# Altium integrated library Linear Technology Power Management Current Sources.IntLib: 79 symbols (part 6 of 7)
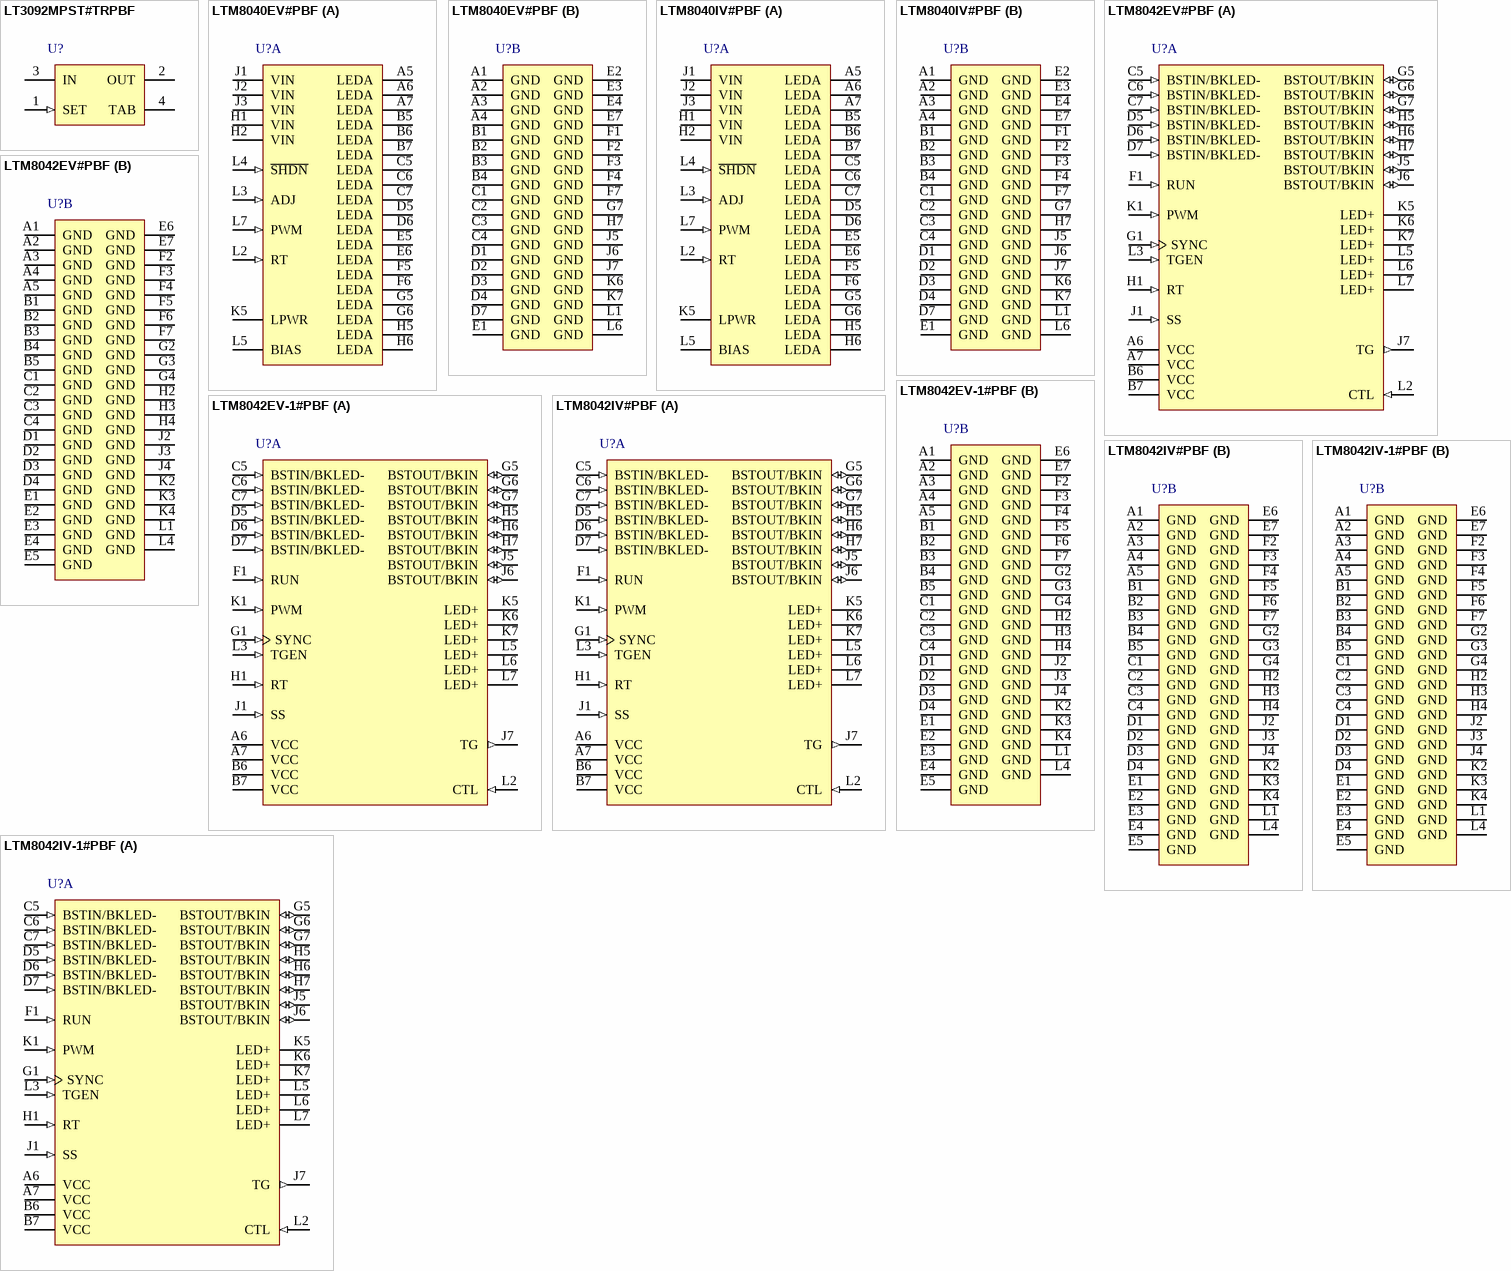
[diagram p7: symbols LT3092MPST#TRPBF to LTM8042IV-1#PBF]

## LTM8042EV-1#PBF
designator U?
uModule Multi-Topology 350 mA CC/CV LED Driver or Current Source, 4.2 mA Isupply, 77-pin LGA, -40 to 125 degC, Pb-Free, Tray; Manufacturer: Linear Technology; PartNumber: LTM8042EV-1#PBF; Extended Temp: E, I; Isupply(mA): 4.2; Output Current Range: 35 mA to 350 mA; Vin Max(V): 30; Vin Min(V): 3; DatasheetVersion: Rev. A; PackageVersion: Rev. Ø, 01/2011; PackageReference: LGA-77; PackageDescription: 77-Lead LGA, Body 15 x 9 mm, Pitch 1.27 mm; Supplier 1: Digi-Key; Supplier Part Number 1: LTM8042EV-1#PBF-ND; Supplier 2: Farnell; Supplier Part Number 2: 1847476; Supplier 3: Newark; Supplier Part Number 3: 99R2732; Packing: Tray; RoHS: TRUE; Mounting Technology: Surface Mount; Code_JEDEC: MO-222; ComponentLink1Description: Manufacturer URL; ComponentLink1URL: http://www.linear.com/; ComponentLink2Description: Datasheet; ComponentLink2URL: http://cds.linear.com/docs/en/datasheet/80421fa.pdf; ComponentLink3Description: Package Specification; ComponentLink3URL: http://cds.linear.com/docs/en/datasheet/80421fa.pdf
footprint LT-LGA-77-05-08-1859_V (LGA, 77-Leads, Body 15x9mm, Pitch 1.27mm)
part A pins: A6 VCC (power) "Internal Housekeeping Power for the LTM8042/LTM8042-1. Connect to an external power source between 3V and 30V. The LTM8042/LTM8042-1 can withstand transients of 40V.", A7 VCC (power) "Internal Housekeeping Power for the LTM8042/LTM8042-1. Connect to an external power source between 3V and 30V. The LTM8042/LTM8042-1 can withstand transients of 40V.", B6 VCC (power) "Internal Housekeeping Power for the LTM8042/LTM8042-1. Connect to an external power source between 3V and 30V. The LTM8042/LTM8042-1 can withstand transients of 40V.", B7 VCC (power) "Internal Housekeeping Power for the LTM8042/LTM8042-1. Connect to an external power source between 3V and 30V. The LTM8042/LTM8042-1 can withstand transients of 40V.", C5 BSTIN/BKLED- (in) "Power Input for Boost Operation, as Well as the Cathode Connection for the LED String in Buck Mode. If the LTM8042/LTM8042-1 is used in boost mode, these pins must be locally decoupled.", C6 BSTIN/BKLED- (in) "Power Input for Boost Operation, as Well as the Cathode Connection for the LED String in Buck Mode. If the LTM8042/LTM8042-1 is used in boost mode, these pins must be locally decoupled.", C7 BSTIN/BKLED- (in) "Power Input for Boost Operation, as Well as the Cathode Connection for the LED String in Buck Mode. If the LTM8042/LTM8042-1 is used in boost mode, these pins must be locally decoupled.", D5 BSTIN/BKLED- (in) "Power Input for Boost Operation, as Well as the Cathode Connection for the LED String in Buck Mode. If the LTM8042/LTM8042-1 is used in boost mode, these pins must be locally decoupled.", D6 BSTIN/BKLED- (in) "Power Input for Boost Operation, as Well as the Cathode Connection for the LED String in Buck Mode. If the LTM8042/LTM8042-1 is used in boost mode, these pins must be locally decoupled.", D7 BSTIN/BKLED- (in) "Power Input for Boost Operation, as Well as the Cathode Connection for the LED String in Buck Mode. If the LTM8042/LTM8042-1 is used in boost mode, these pins must be locally decoupled.", F1 RUN (in) "Module Enable. Tie to 1.5V or higher to enable the LTM8042/LTM8042-1 or 0.4V or less to disable device.", G1 SYNC (in) "Frequency Synchronization Pin. Tie an external clock signal here. The RT resistor should be chosen to program a switching frequency that is 20% slower than SYNC pulse frequency. Tie the SYNC pin to GND if this feature is not (See Datasheet)", G5 BSTOUT/BKIN (io) "Output of the Boost Converter, as Well as the Input for Buck Mode. If the LTM8042/LTM8042-1 is used in buck mode, these pins must be locally decoupled.", G6 BSTOUT/BKIN (io) "Output of the Boost Converter, as Well as the Input for Buck Mode. If the LTM8042/LTM8042-1 is used in buck mode, these pins must be locally decoupled.", G7 BSTOUT/BKIN (io) "Output of the Boost Converter, as Well as the Input for Buck Mode. If the LTM8042/LTM8042-1 is used in buck mode, these pins must be locally decoupled.", H1 RT (in) "Timing Resistor Pin. Used to program the switching frequency of the LTM8042/LTM8042-1 by connecting a resistor from this pin to GND. The Applications Information section of the data sheet includes a table to determine the (See Datasheet)", H5 BSTOUT/BKIN (io) "Output of the Boost Converter, as Well as the Input for Buck Mode. If the LTM8042/LTM8042-1 is used in buck mode, these pins must be locally decoupled.", H6 BSTOUT/BKIN (io) "Output of the Boost Converter, as Well as the Input for Buck Mode. If the LTM8042/LTM8042-1 is used in buck mode, these pins must be locally decoupled.", H7 BSTOUT/BKIN (io) "Output of the Boost Converter, as Well as the Input for Buck Mode. If the LTM8042/LTM8042-1 is used in buck mode, these pins must be locally decoupled.", J1 SS (in) "Soft-Start Pin. Place a soft-start capacitor here. Leave the pin open if not used.", J5 BSTOUT/BKIN (io) "Output of the Boost Converter, as Well as the Input for Buck Mode. If the LTM8042/LTM8042-1 is used in buck mode, these pins must be locally decoupled.", J6 BSTOUT/BKIN (io) "Output of the Boost Converter, as Well as the Input for Buck Mode. If the LTM8042/LTM8042-1 is used in buck mode, these pins must be locally decoupled.", J7 TG (out) "Top Gate Driver Output. In response to an active high PWM signal, this pin will drive the gate of an external series P-channel MOSFET device low. An internal 7V clamp protects the PFET gate. This pin can also be used to (See Datasheet)", K1 PWM (in) "Pulse Width Modulation Input Pin. A low signal turns off the LED string, disables the main switch and pulls the TG pin high. Drive above 1.55V to deliver current to the output. Tie the PWM pin to the RUN pin if not used. (See Datasheet)", K5 LED+ (power) "Connect this to the anode of the LED string. This can also be connected to the PWM dimming MOSFET if used.", K6 LED+ (power) "Connect this to the anode of the LED string. This can also be connected to the PWM dimming MOSFET if used.", K7 LED+ (power) "Connect this to the anode of the LED string. This can also be connected to the PWM dimming MOSFET if used.", L2 CTL (in) "LED Current Adjustment Pin. Apply a voltage between approximately 1V and 0V to modulate the LED+ output current, or tie a resistor to GND to modulate the LED+ current. CTL is internally tied to a 2V precision reference via a (See Datasheet)", L3 TGEN (in) "Top Gate (TG) Enable Input Pin. Tie to 1.5V or higher to enable the P-channel MOSFET driver function. Tie the TGEN pin to ground if the TG function is not used. There is an internal 40k resistor from TGEN to GND.", L5 LED+ (power) "Connect this to the anode of the LED string. This can also be connected to the PWM dimming MOSFET if used.", L6 LED+ (power) "Connect this to the anode of the LED string. This can also be connected to the PWM dimming MOSFET if used.", L7 LED+ (power) "Connect this to the anode of the LED string. This can also be connected to the PWM dimming MOSFET if used."
part B pins: A1 GND (power) "Signal and Power Return. Tie these pads to a local ground plane below the LTM8042/LTM8042-1 and the circuit components. In most applications, the bulk of the heat flow out of the LTM8042/LTM8042-1 is through these pads, so (See Datasheet)", A2 GND (power) "Signal and Power Return. Tie these pads to a local ground plane below the LTM8042/LTM8042-1 and the circuit components. In most applications, the bulk of the heat flow out of the LTM8042/LTM8042-1 is through these pads, so (See Datasheet)", A3 GND (power) "Signal and Power Return. Tie these pads to a local ground plane below the LTM8042/LTM8042-1 and the circuit components. In most applications, the bulk of the heat flow out of the LTM8042/LTM8042-1 is through these pads, so (See Datasheet)", A4 GND (power) "Signal and Power Return. Tie these pads to a local ground plane below the LTM8042/LTM8042-1 and the circuit components. In most applications, the bulk of the heat flow out of the LTM8042/LTM8042-1 is through these pads, so (See Datasheet)", A5 GND (power) "Signal and Power Return. Tie these pads to a local ground plane below the LTM8042/LTM8042-1 and the circuit components. In most applications, the bulk of the heat flow out of the LTM8042/LTM8042-1 is through these pads, so (See Datasheet)", B1 GND (power) "Signal and Power Return. Tie these pads to a local ground plane below the LTM8042/LTM8042-1 and the circuit components. In most applications, the bulk of the heat flow out of the LTM8042/LTM8042-1 is through these pads, so (See Datasheet)", B2 GND (power) "Signal and Power Return. Tie these pads to a local ground plane below the LTM8042/LTM8042-1 and the circuit components. In most applications, the bulk of the heat flow out of the LTM8042/LTM8042-1 is through these pads, so (See Datasheet)", B3 GND (power) "Signal and Power Return. Tie these pads to a local ground plane below the LTM8042/LTM8042-1 and the circuit components. In most applications, the bulk of the heat flow out of the LTM8042/LTM8042-1 is through these pads, so (See Datasheet)", B4 GND (power) "Signal and Power Return. Tie these pads to a local ground plane below the LTM8042/LTM8042-1 and the circuit components. In most applications, the bulk of the heat flow out of the LTM8042/LTM8042-1 is through these pads, so (See Datasheet)", B5 GND (power) "Signal and Power Return. Tie these pads to a local ground plane below the LTM8042/LTM8042-1 and the circuit components. In most applications, the bulk of the heat flow out of the LTM8042/LTM8042-1 is through these pads, so (See Datasheet)", C1 GND (power) "Signal and Power Return. Tie these pads to a local ground plane below the LTM8042/LTM8042-1 and the circuit components. In most applications, the bulk of the heat flow out of the LTM8042/LTM8042-1 is through these pads, so (See Datasheet)", C2 GND (power) "Signal and Power Return. Tie these pads to a local ground plane below the LTM8042/LTM8042-1 and the circuit components. In most applications, the bulk of the heat flow out of the LTM8042/LTM8042-1 is through these pads, so (See Datasheet)", C3 GND (power) "Signal and Power Return. Tie these pads to a local ground plane below the LTM8042/LTM8042-1 and the circuit components. In most applications, the bulk of the heat flow out of the LTM8042/LTM8042-1 is through these pads, so (See Datasheet)", C4 GND (power) "Signal and Power Return. Tie these pads to a local ground plane below the LTM8042/LTM8042-1 and the circuit components. In most applications, the bulk of the heat flow out of the LTM8042/LTM8042-1 is through these pads, so (See Datasheet)", D1 GND (power) "Signal and Power Return. Tie these pads to a local ground plane below the LTM8042/LTM8042-1 and the circuit components. In most applications, the bulk of the heat flow out of the LTM8042/LTM8042-1 is through these pads, so (See Datasheet)", D2 GND (power) "Signal and Power Return. Tie these pads to a local ground plane below the LTM8042/LTM8042-1 and the circuit components. In most applications, the bulk of the heat flow out of the LTM8042/LTM8042-1 is through these pads, so (See Datasheet)", D3 GND (power) "Signal and Power Return. Tie these pads to a local ground plane below the LTM8042/LTM8042-1 and the circuit components. In most applications, the bulk of the heat flow out of the LTM8042/LTM8042-1 is through these pads, so (See Datasheet)", D4 GND (power) "Signal and Power Return. Tie these pads to a local ground plane below the LTM8042/LTM8042-1 and the circuit components. In most applications, the bulk of the heat flow out of the LTM8042/LTM8042-1 is through these pads, so (See Datasheet)", E1 GND (power) "Signal and Power Return. Tie these pads to a local ground plane below the LTM8042/LTM8042-1 and the circuit components. In most applications, the bulk of the heat flow out of the LTM8042/LTM8042-1 is through these pads, so (See Datasheet)", E2 GND (power) "Signal and Power Return. Tie these pads to a local ground plane below the LTM8042/LTM8042-1 and the circuit components. In most applications, the bulk of the heat flow out of the LTM8042/LTM8042-1 is through these pads, so (See Datasheet)", E3 GND (power) "Signal and Power Return. Tie these pads to a local ground plane below the LTM8042/LTM8042-1 and the circuit components. In most applications, the bulk of the heat flow out of the LTM8042/LTM8042-1 is through these pads, so (See Datasheet)", E4 GND (power) "Signal and Power Return. Tie these pads to a local ground plane below the LTM8042/LTM8042-1 and the circuit components. In most applications, the bulk of the heat flow out of the LTM8042/LTM8042-1 is through these pads, so (See Datasheet)", E5 GND (power) "Signal and Power Return. Tie these pads to a local ground plane below the LTM8042/LTM8042-1 and the circuit components. In most applications, the bulk of the heat flow out of the LTM8042/LTM8042-1 is through these pads, so (See Datasheet)", E6 GND (power) "Signal and Power Return. Tie these pads to a local ground plane below the LTM8042/LTM8042-1 and the circuit components. In most applications, the bulk of the heat flow out of the LTM8042/LTM8042-1 is through these pads, so (See Datasheet)", E7 GND (power) "Signal and Power Return. Tie these pads to a local ground plane below the LTM8042/LTM8042-1 and the circuit components. In most applications, the bulk of the heat flow out of the LTM8042/LTM8042-1 is through these pads, so (See Datasheet)", F2 GND (power) "Signal and Power Return. Tie these pads to a local ground plane below the LTM8042/LTM8042-1 and the circuit components. In most applications, the bulk of the heat flow out of the LTM8042/LTM8042-1 is through these pads, so (See Datasheet)", F3 GND (power) "Signal and Power Return. Tie these pads to a local ground plane below the LTM8042/LTM8042-1 and the circuit components. In most applications, the bulk of the heat flow out of the LTM8042/LTM8042-1 is through these pads, so (See Datasheet)", F4 GND (power) "Signal and Power Return. Tie these pads to a local ground plane below the LTM8042/LTM8042-1 and the circuit components. In most applications, the bulk of the heat flow out of the LTM8042/LTM8042-1 is through these pads, so (See Datasheet)", F5 GND (power) "Signal and Power Return. Tie these pads to a local ground plane below the LTM8042/LTM8042-1 and the circuit components. In most applications, the bulk of the heat flow out of the LTM8042/LTM8042-1 is through these pads, so (See Datasheet)", F6 GND (power) "Signal and Power Return. Tie these pads to a local ground plane below the LTM8042/LTM8042-1 and the circuit components. In most applications, the bulk of the heat flow out of the LTM8042/LTM8042-1 is through these pads, so (See Datasheet)", F7 GND (power) "Signal and Power Return. Tie these pads to a local ground plane below the LTM8042/LTM8042-1 and the circuit components. In most applications, the bulk of the heat flow out of the LTM8042/LTM8042-1 is through these pads, so (See Datasheet)", G2 GND (power) "Signal and Power Return. Tie these pads to a local ground plane below the LTM8042/LTM8042-1 and the circuit components. In most applications, the bulk of the heat flow out of the LTM8042/LTM8042-1 is through these pads, so (See Datasheet)", G3 GND (power) "Signal and Power Return. Tie these pads to a local ground plane below the LTM8042/LTM8042-1 and the circuit components. In most applications, the bulk of the heat flow out of the LTM8042/LTM8042-1 is through these pads, so (See Datasheet)", G4 GND (power) "Signal and Power Return. Tie these pads to a local ground plane below the LTM8042/LTM8042-1 and the circuit components. In most applications, the bulk of the heat flow out of the LTM8042/LTM8042-1 is through these pads, so (See Datasheet)", H2 GND (power) "Signal and Power Return. Tie these pads to a local ground plane below the LTM8042/LTM8042-1 and the circuit components. In most applications, the bulk of the heat flow out of the LTM8042/LTM8042-1 is through these pads, so (See Datasheet)", H3 GND (power) "Signal and Power Return. Tie these pads to a local ground plane below the LTM8042/LTM8042-1 and the circuit components. In most applications, the bulk of the heat flow out of the LTM8042/LTM8042-1 is through these pads, so (See Datasheet)", H4 GND (power) "Signal and Power Return. Tie these pads to a local ground plane below the LTM8042/LTM8042-1 and the circuit components. In most applications, the bulk of the heat flow out of the LTM8042/LTM8042-1 is through these pads, so (See Datasheet)", J2 GND (power) "Signal and Power Return. Tie these pads to a local ground plane below the LTM8042/LTM8042-1 and the circuit components. In most applications, the bulk of the heat flow out of the LTM8042/LTM8042-1 is through these pads, so (See Datasheet)", J3 GND (power) "Signal and Power Return. Tie these pads to a local ground plane below the LTM8042/LTM8042-1 and the circuit components. In most applications, the bulk of the heat flow out of the LTM8042/LTM8042-1 is through these pads, so (See Datasheet)", J4 GND (power) "Signal and Power Return. Tie these pads to a local ground plane below the LTM8042/LTM8042-1 and the circuit components. In most applications, the bulk of the heat flow out of the LTM8042/LTM8042-1 is through these pads, so (See Datasheet)", K2 GND (power) "Signal and Power Return. Tie these pads to a local ground plane below the LTM8042/LTM8042-1 and the circuit components. In most applications, the bulk of the heat flow out of the LTM8042/LTM8042-1 is through these pads, so (See Datasheet)", K3 GND (power) "Signal and Power Return. Tie these pads to a local ground plane below the LTM8042/LTM8042-1 and the circuit components. In most applications, the bulk of the heat flow out of the LTM8042/LTM8042-1 is through these pads, so (See Datasheet)", K4 GND (power) "Signal and Power Return. Tie these pads to a local ground plane below the LTM8042/LTM8042-1 and the circuit components. In most applications, the bulk of the heat flow out of the LTM8042/LTM8042-1 is through these pads, so (See Datasheet)", L1 GND (power) "Signal and Power Return. Tie these pads to a local ground plane below the LTM8042/LTM8042-1 and the circuit components. In most applications, the bulk of the heat flow out of the LTM8042/LTM8042-1 is through these pads, so (See Datasheet)", L4 GND (power) "Signal and Power Return. Tie these pads to a local ground plane below the LTM8042/LTM8042-1 and the circuit components. In most applications, the bulk of the heat flow out of the LTM8042/LTM8042-1 is through these pads, so (See Datasheet)"

## LTM8042IV#PBF
designator U?
uModule Multi-Topology 1 A CC/CV LED Driver or Current Source, 4.2 mA Isupply, 77-pin LGA, -40 to 125 degC, Pb-Free, Tray; Manufacturer: Linear Technology; PartNumber: LTM8042IV#PBF; Extended Temp: E, I; Isupply(mA): 4.2; Output Current Range: 35 mA to 1000 mA; Vin Max(V): 30; Vin Min(V): 3; DatasheetVersion: Rev. A; PackageVersion: Rev. Ø, 01/2011; PackageReference: LGA-77; PackageDescription: 77-Lead LGA, Body 15 x 9 mm, Pitch 1.27 mm; Supplier 1: Digi-Key; Supplier Part Number 1: LTM8042IV#PBF-ND; Supplier 2: Farnell; Supplier Part Number 2: 1847477; Supplier 3: Newark; Supplier Part Number 3: 99R2735; Packing: Tray; RoHS: TRUE; Mounting Technology: Surface Mount; Code_JEDEC: MO-222; ComponentLink1Description: Manufacturer URL; ComponentLink1URL: http://www.linear.com/; ComponentLink2Description: Datasheet; ComponentLink2URL: http://cds.linear.com/docs/en/datasheet/80421fa.pdf; ComponentLink3Description: Package Specification; ComponentLink3URL: http://cds.linear.com/docs/en/datasheet/80421fa.pdf
footprint LT-LGA-77-05-08-1859_V (LGA, 77-Leads, Body 15x9mm, Pitch 1.27mm)
part A pins: A6 VCC (power) "Internal Housekeeping Power for the LTM8042/LTM8042-1. Connect to an external power source between 3V and 30V. The LTM8042/LTM8042-1 can withstand transients of 40V.", A7 VCC (power) "Internal Housekeeping Power for the LTM8042/LTM8042-1. Connect to an external power source between 3V and 30V. The LTM8042/LTM8042-1 can withstand transients of 40V.", B6 VCC (power) "Internal Housekeeping Power for the LTM8042/LTM8042-1. Connect to an external power source between 3V and 30V. The LTM8042/LTM8042-1 can withstand transients of 40V.", B7 VCC (power) "Internal Housekeeping Power for the LTM8042/LTM8042-1. Connect to an external power source between 3V and 30V. The LTM8042/LTM8042-1 can withstand transients of 40V.", C5 BSTIN/BKLED- (in) "Power Input for Boost Operation, as Well as the Cathode Connection for the LED String in Buck Mode. If the LTM8042/LTM8042-1 is used in boost mode, these pins must be locally decoupled.", C6 BSTIN/BKLED- (in) "Power Input for Boost Operation, as Well as the Cathode Connection for the LED String in Buck Mode. If the LTM8042/LTM8042-1 is used in boost mode, these pins must be locally decoupled.", C7 BSTIN/BKLED- (in) "Power Input for Boost Operation, as Well as the Cathode Connection for the LED String in Buck Mode. If the LTM8042/LTM8042-1 is used in boost mode, these pins must be locally decoupled.", D5 BSTIN/BKLED- (in) "Power Input for Boost Operation, as Well as the Cathode Connection for the LED String in Buck Mode. If the LTM8042/LTM8042-1 is used in boost mode, these pins must be locally decoupled.", D6 BSTIN/BKLED- (in) "Power Input for Boost Operation, as Well as the Cathode Connection for the LED String in Buck Mode. If the LTM8042/LTM8042-1 is used in boost mode, these pins must be locally decoupled.", D7 BSTIN/BKLED- (in) "Power Input for Boost Operation, as Well as the Cathode Connection for the LED String in Buck Mode. If the LTM8042/LTM8042-1 is used in boost mode, these pins must be locally decoupled.", F1 RUN (in) "Module Enable. Tie to 1.5V or higher to enable the LTM8042/LTM8042-1 or 0.4V or less to disable device.", G1 SYNC (in) "Frequency Synchronization Pin. Tie an external clock signal here. The RT resistor should be chosen to program a switching frequency that is 20% slower than SYNC pulse frequency. Tie the SYNC pin to GND if this feature is not (See Datasheet)", G5 BSTOUT/BKIN (io) "Output of the Boost Converter, as Well as the Input for Buck Mode. If the LTM8042/LTM8042-1 is used in buck mode, these pins must be locally decoupled.", G6 BSTOUT/BKIN (io) "Output of the Boost Converter, as Well as the Input for Buck Mode. If the LTM8042/LTM8042-1 is used in buck mode, these pins must be locally decoupled.", G7 BSTOUT/BKIN (io) "Output of the Boost Converter, as Well as the Input for Buck Mode. If the LTM8042/LTM8042-1 is used in buck mode, these pins must be locally decoupled.", H1 RT (in) "Timing Resistor Pin. Used to program the switching frequency of the LTM8042/LTM8042-1 by connecting a resistor from this pin to GND. The Applications Information section of the data sheet includes a table to determine the (See Datasheet)", H5 BSTOUT/BKIN (io) "Output of the Boost Converter, as Well as the Input for Buck Mode. If the LTM8042/LTM8042-1 is used in buck mode, these pins must be locally decoupled.", H6 BSTOUT/BKIN (io) "Output of the Boost Converter, as Well as the Input for Buck Mode. If the LTM8042/LTM8042-1 is used in buck mode, these pins must be locally decoupled.", H7 BSTOUT/BKIN (io) "Output of the Boost Converter, as Well as the Input for Buck Mode. If the LTM8042/LTM8042-1 is used in buck mode, these pins must be locally decoupled.", J1 SS (in) "Soft-Start Pin. Place a soft-start capacitor here. Leave the pin open if not used.", J5 BSTOUT/BKIN (io) "Output of the Boost Converter, as Well as the Input for Buck Mode. If the LTM8042/LTM8042-1 is used in buck mode, these pins must be locally decoupled.", J6 BSTOUT/BKIN (io) "Output of the Boost Converter, as Well as the Input for Buck Mode. If the LTM8042/LTM8042-1 is used in buck mode, these pins must be locally decoupled.", J7 TG (out) "Top Gate Driver Output. In response to an active high PWM signal, this pin will drive the gate of an external series P-channel MOSFET device low. An internal 7V clamp protects the PFET gate. This pin can also be used to (See Datasheet)", K1 PWM (in) "Pulse Width Modulation Input Pin. A low signal turns off the LED string, disables the main switch and pulls the TG pin high. Drive above 1.55V to deliver current to the output. Tie the PWM pin to the RUN pin if not used. (See Datasheet)", K5 LED+ (power) "Connect this to the anode of the LED string. This can also be connected to the PWM dimming MOSFET if used.", K6 LED+ (power) "Connect this to the anode of the LED string. This can also be connected to the PWM dimming MOSFET if used.", K7 LED+ (power) "Connect this to the anode of the LED string. This can also be connected to the PWM dimming MOSFET if used.", L2 CTL (in) "LED Current Adjustment Pin. Apply a voltage between approximately 1V and 0V to modulate the LED+ output current, or tie a resistor to GND to modulate the LED+ current. CTL is internally tied to a 2V precision reference via a (See Datasheet)", L3 TGEN (in) "Top Gate (TG) Enable Input Pin. Tie to 1.5V or higher to enable the P-channel MOSFET driver function. Tie the TGEN pin to ground if the TG function is not used. There is an internal 40k resistor from TGEN to GND.", L5 LED+ (power) "Connect this to the anode of the LED string. This can also be connected to the PWM dimming MOSFET if used.", L6 LED+ (power) "Connect this to the anode of the LED string. This can also be connected to the PWM dimming MOSFET if used.", L7 LED+ (power) "Connect this to the anode of the LED string. This can also be connected to the PWM dimming MOSFET if used."
part B pins: A1 GND (power) "Signal and Power Return. Tie these pads to a local ground plane below the LTM8042/LTM8042-1 and the circuit components. In most applications, the bulk of the heat flow out of the LTM8042/LTM8042-1 is through these pads, so (See Datasheet)", A2 GND (power) "Signal and Power Return. Tie these pads to a local ground plane below the LTM8042/LTM8042-1 and the circuit components. In most applications, the bulk of the heat flow out of the LTM8042/LTM8042-1 is through these pads, so (See Datasheet)", A3 GND (power) "Signal and Power Return. Tie these pads to a local ground plane below the LTM8042/LTM8042-1 and the circuit components. In most applications, the bulk of the heat flow out of the LTM8042/LTM8042-1 is through these pads, so (See Datasheet)", A4 GND (power) "Signal and Power Return. Tie these pads to a local ground plane below the LTM8042/LTM8042-1 and the circuit components. In most applications, the bulk of the heat flow out of the LTM8042/LTM8042-1 is through these pads, so (See Datasheet)", A5 GND (power) "Signal and Power Return. Tie these pads to a local ground plane below the LTM8042/LTM8042-1 and the circuit components. In most applications, the bulk of the heat flow out of the LTM8042/LTM8042-1 is through these pads, so (See Datasheet)", B1 GND (power) "Signal and Power Return. Tie these pads to a local ground plane below the LTM8042/LTM8042-1 and the circuit components. In most applications, the bulk of the heat flow out of the LTM8042/LTM8042-1 is through these pads, so (See Datasheet)", B2 GND (power) "Signal and Power Return. Tie these pads to a local ground plane below the LTM8042/LTM8042-1 and the circuit components. In most applications, the bulk of the heat flow out of the LTM8042/LTM8042-1 is through these pads, so (See Datasheet)", B3 GND (power) "Signal and Power Return. Tie these pads to a local ground plane below the LTM8042/LTM8042-1 and the circuit components. In most applications, the bulk of the heat flow out of the LTM8042/LTM8042-1 is through these pads, so (See Datasheet)", B4 GND (power) "Signal and Power Return. Tie these pads to a local ground plane below the LTM8042/LTM8042-1 and the circuit components. In most applications, the bulk of the heat flow out of the LTM8042/LTM8042-1 is through these pads, so (See Datasheet)", B5 GND (power) "Signal and Power Return. Tie these pads to a local ground plane below the LTM8042/LTM8042-1 and the circuit components. In most applications, the bulk of the heat flow out of the LTM8042/LTM8042-1 is through these pads, so (See Datasheet)", C1 GND (power) "Signal and Power Return. Tie these pads to a local ground plane below the LTM8042/LTM8042-1 and the circuit components. In most applications, the bulk of the heat flow out of the LTM8042/LTM8042-1 is through these pads, so (See Datasheet)", C2 GND (power) "Signal and Power Return. Tie these pads to a local ground plane below the LTM8042/LTM8042-1 and the circuit components. In most applications, the bulk of the heat flow out of the LTM8042/LTM8042-1 is through these pads, so (See Datasheet)", C3 GND (power) "Signal and Power Return. Tie these pads to a local ground plane below the LTM8042/LTM8042-1 and the circuit components. In most applications, the bulk of the heat flow out of the LTM8042/LTM8042-1 is through these pads, so (See Datasheet)", C4 GND (power) "Signal and Power Return. Tie these pads to a local ground plane below the LTM8042/LTM8042-1 and the circuit components. In most applications, the bulk of the heat flow out of the LTM8042/LTM8042-1 is through these pads, so (See Datasheet)", D1 GND (power) "Signal and Power Return. Tie these pads to a local ground plane below the LTM8042/LTM8042-1 and the circuit components. In most applications, the bulk of the heat flow out of the LTM8042/LTM8042-1 is through these pads, so (See Datasheet)", D2 GND (power) "Signal and Power Return. Tie these pads to a local ground plane below the LTM8042/LTM8042-1 and the circuit components. In most applications, the bulk of the heat flow out of the LTM8042/LTM8042-1 is through these pads, so (See Datasheet)", D3 GND (power) "Signal and Power Return. Tie these pads to a local ground plane below the LTM8042/LTM8042-1 and the circuit components. In most applications, the bulk of the heat flow out of the LTM8042/LTM8042-1 is through these pads, so (See Datasheet)", D4 GND (power) "Signal and Power Return. Tie these pads to a local ground plane below the LTM8042/LTM8042-1 and the circuit components. In most applications, the bulk of the heat flow out of the LTM8042/LTM8042-1 is through these pads, so (See Datasheet)", E1 GND (power) "Signal and Power Return. Tie these pads to a local ground plane below the LTM8042/LTM8042-1 and the circuit components. In most applications, the bulk of the heat flow out of the LTM8042/LTM8042-1 is through these pads, so (See Datasheet)", E2 GND (power) "Signal and Power Return. Tie these pads to a local ground plane below the LTM8042/LTM8042-1 and the circuit components. In most applications, the bulk of the heat flow out of the LTM8042/LTM8042-1 is through these pads, so (See Datasheet)", E3 GND (power) "Signal and Power Return. Tie these pads to a local ground plane below the LTM8042/LTM8042-1 and the circuit components. In most applications, the bulk of the heat flow out of the LTM8042/LTM8042-1 is through these pads, so (See Datasheet)", E4 GND (power) "Signal and Power Return. Tie these pads to a local ground plane below the LTM8042/LTM8042-1 and the circuit components. In most applications, the bulk of the heat flow out of the LTM8042/LTM8042-1 is through these pads, so (See Datasheet)", E5 GND (power) "Signal and Power Return. Tie these pads to a local ground plane below the LTM8042/LTM8042-1 and the circuit components. In most applications, the bulk of the heat flow out of the LTM8042/LTM8042-1 is through these pads, so (See Datasheet)", E6 GND (power) "Signal and Power Return. Tie these pads to a local ground plane below the LTM8042/LTM8042-1 and the circuit components. In most applications, the bulk of the heat flow out of the LTM8042/LTM8042-1 is through these pads, so (See Datasheet)", E7 GND (power) "Signal and Power Return. Tie these pads to a local ground plane below the LTM8042/LTM8042-1 and the circuit components. In most applications, the bulk of the heat flow out of the LTM8042/LTM8042-1 is through these pads, so (See Datasheet)", F2 GND (power) "Signal and Power Return. Tie these pads to a local ground plane below the LTM8042/LTM8042-1 and the circuit components. In most applications, the bulk of the heat flow out of the LTM8042/LTM8042-1 is through these pads, so (See Datasheet)", F3 GND (power) "Signal and Power Return. Tie these pads to a local ground plane below the LTM8042/LTM8042-1 and the circuit components. In most applications, the bulk of the heat flow out of the LTM8042/LTM8042-1 is through these pads, so (See Datasheet)", F4 GND (power) "Signal and Power Return. Tie these pads to a local ground plane below the LTM8042/LTM8042-1 and the circuit components. In most applications, the bulk of the heat flow out of the LTM8042/LTM8042-1 is through these pads, so (See Datasheet)", F5 GND (power) "Signal and Power Return. Tie these pads to a local ground plane below the LTM8042/LTM8042-1 and the circuit components. In most applications, the bulk of the heat flow out of the LTM8042/LTM8042-1 is through these pads, so (See Datasheet)", F6 GND (power) "Signal and Power Return. Tie these pads to a local ground plane below the LTM8042/LTM8042-1 and the circuit components. In most applications, the bulk of the heat flow out of the LTM8042/LTM8042-1 is through these pads, so (See Datasheet)", F7 GND (power) "Signal and Power Return. Tie these pads to a local ground plane below the LTM8042/LTM8042-1 and the circuit components. In most applications, the bulk of the heat flow out of the LTM8042/LTM8042-1 is through these pads, so (See Datasheet)", G2 GND (power) "Signal and Power Return. Tie these pads to a local ground plane below the LTM8042/LTM8042-1 and the circuit components. In most applications, the bulk of the heat flow out of the LTM8042/LTM8042-1 is through these pads, so (See Datasheet)", G3 GND (power) "Signal and Power Return. Tie these pads to a local ground plane below the LTM8042/LTM8042-1 and the circuit components. In most applications, the bulk of the heat flow out of the LTM8042/LTM8042-1 is through these pads, so (See Datasheet)", G4 GND (power) "Signal and Power Return. Tie these pads to a local ground plane below the LTM8042/LTM8042-1 and the circuit components. In most applications, the bulk of the heat flow out of the LTM8042/LTM8042-1 is through these pads, so (See Datasheet)", H2 GND (power) "Signal and Power Return. Tie these pads to a local ground plane below the LTM8042/LTM8042-1 and the circuit components. In most applications, the bulk of the heat flow out of the LTM8042/LTM8042-1 is through these pads, so (See Datasheet)", H3 GND (power) "Signal and Power Return. Tie these pads to a local ground plane below the LTM8042/LTM8042-1 and the circuit components. In most applications, the bulk of the heat flow out of the LTM8042/LTM8042-1 is through these pads, so (See Datasheet)", H4 GND (power) "Signal and Power Return. Tie these pads to a local ground plane below the LTM8042/LTM8042-1 and the circuit components. In most applications, the bulk of the heat flow out of the LTM8042/LTM8042-1 is through these pads, so (See Datasheet)", J2 GND (power) "Signal and Power Return. Tie these pads to a local ground plane below the LTM8042/LTM8042-1 and the circuit components. In most applications, the bulk of the heat flow out of the LTM8042/LTM8042-1 is through these pads, so (See Datasheet)", J3 GND (power) "Signal and Power Return. Tie these pads to a local ground plane below the LTM8042/LTM8042-1 and the circuit components. In most applications, the bulk of the heat flow out of the LTM8042/LTM8042-1 is through these pads, so (See Datasheet)", J4 GND (power) "Signal and Power Return. Tie these pads to a local ground plane below the LTM8042/LTM8042-1 and the circuit components. In most applications, the bulk of the heat flow out of the LTM8042/LTM8042-1 is through these pads, so (See Datasheet)", K2 GND (power) "Signal and Power Return. Tie these pads to a local ground plane below the LTM8042/LTM8042-1 and the circuit components. In most applications, the bulk of the heat flow out of the LTM8042/LTM8042-1 is through these pads, so (See Datasheet)", K3 GND (power) "Signal and Power Return. Tie these pads to a local ground plane below the LTM8042/LTM8042-1 and the circuit components. In most applications, the bulk of the heat flow out of the LTM8042/LTM8042-1 is through these pads, so (See Datasheet)", K4 GND (power) "Signal and Power Return. Tie these pads to a local ground plane below the LTM8042/LTM8042-1 and the circuit components. In most applications, the bulk of the heat flow out of the LTM8042/LTM8042-1 is through these pads, so (See Datasheet)", L1 GND (power) "Signal and Power Return. Tie these pads to a local ground plane below the LTM8042/LTM8042-1 and the circuit components. In most applications, the bulk of the heat flow out of the LTM8042/LTM8042-1 is through these pads, so (See Datasheet)", L4 GND (power) "Signal and Power Return. Tie these pads to a local ground plane below the LTM8042/LTM8042-1 and the circuit components. In most applications, the bulk of the heat flow out of the LTM8042/LTM8042-1 is through these pads, so (See Datasheet)"